# EAGLE library part W65C21 (library crasbe)
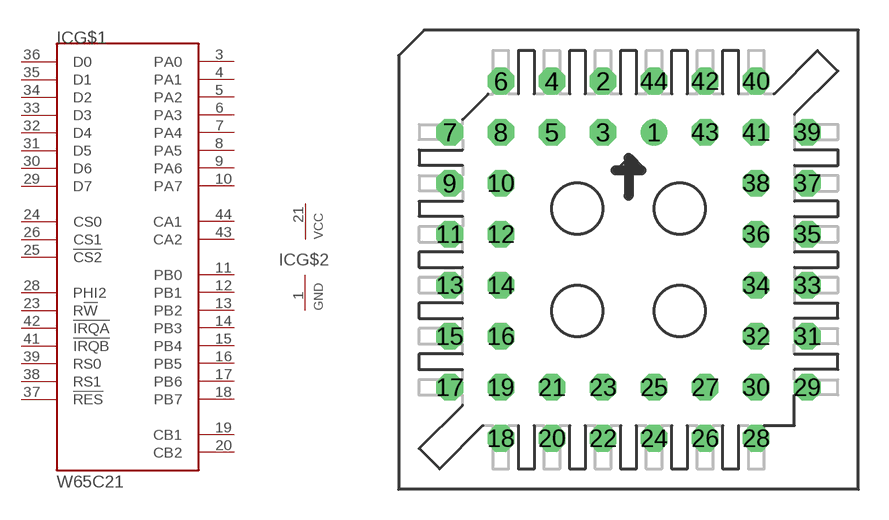
[diagram p32: symbol with the pads of PLCC-S44; footprint PLCC-S44]

Designator prefix IC; gates G$1=65C21 G$2=VCC1GND1

## W65C21S6TPLG-14  [PLCC-S44]
1  G$2:GND  pwr
3  G$1:PA0
4  G$1:PA1
5  G$1:PA2
6  G$1:PA3
7  G$1:PA4
8  G$1:PA5
9  G$1:PA6
10  G$1:PA7
11  G$1:PB0
12  G$1:PB1
13  G$1:PB2
14  G$1:PB3
15  G$1:PB4
16  G$1:PB5
17  G$1:PB6
18  G$1:PB7
19  G$1:CB1  in
20  G$1:CB2
21  G$2:VCC  pwr
23  G$1:R!W  in
24  G$1:CS0  in
25  G$1:!CS2  in
26  G$1:CS1  in
28  G$1:PHI2  in
29  G$1:D7
30  G$1:D6
31  G$1:D5
32  G$1:D4
33  G$1:D3
34  G$1:D2
35  G$1:D1
36  G$1:D0
37  G$1:!RES  in
38  G$1:RS1  in
39  G$1:RS0  in
41  G$1:!IRQB  out
42  G$1:!IRQA  out
43  G$1:CA2
44  G$1:CA1  in

## Footprint PLCC-S44 (pad centres in mm)
drill 0.813: 1 1.27,6.35
drill 0.813 octagon: 2 -1.27,8.89; 3 -1.27,6.35; 4 -3.81,8.89; 5 -3.81,6.35; 6 -6.35,8.89; 7 -8.89,6.35; 8 -6.35,6.35; 9 -8.89,3.81; 10 -6.35,3.81; 11 -8.89,1.27; 12 -6.35,1.27; 13 -8.89,-1.27; 14 -6.35,-1.27; 15 -8.89,-3.81; 16 -6.35,-3.81; 17 -8.89,-6.35; 18 -6.35,-8.89; 19 -6.35,-6.35; 20 -3.81,-8.89; 21 -3.81,-6.35; 22 -1.27,-8.89; 23 -1.27,-6.35; 24 1.27,-8.89; 25 1.27,-6.35; 26 3.81,-8.89; 27 3.81,-6.35; 28 6.35,-8.89; 29 8.89,-6.35; 30 6.35,-6.35; 31 8.89,-3.81; 32 6.35,-3.81; 33 8.89,-1.27; 34 6.35,-1.27; 35 8.89,1.27; 36 6.35,1.27; 37 8.89,3.81; 38 6.35,3.81; 39 8.89,6.35; 40 6.35,8.89; 41 6.35,6.35; 42 3.81,8.89; 43 3.81,6.35; 44 1.27,8.89